# Altium schematic symbol library Schlib1.SchLib: 12 symbols
Pins are listed as number, name and electrical type; pins without a type are passive.

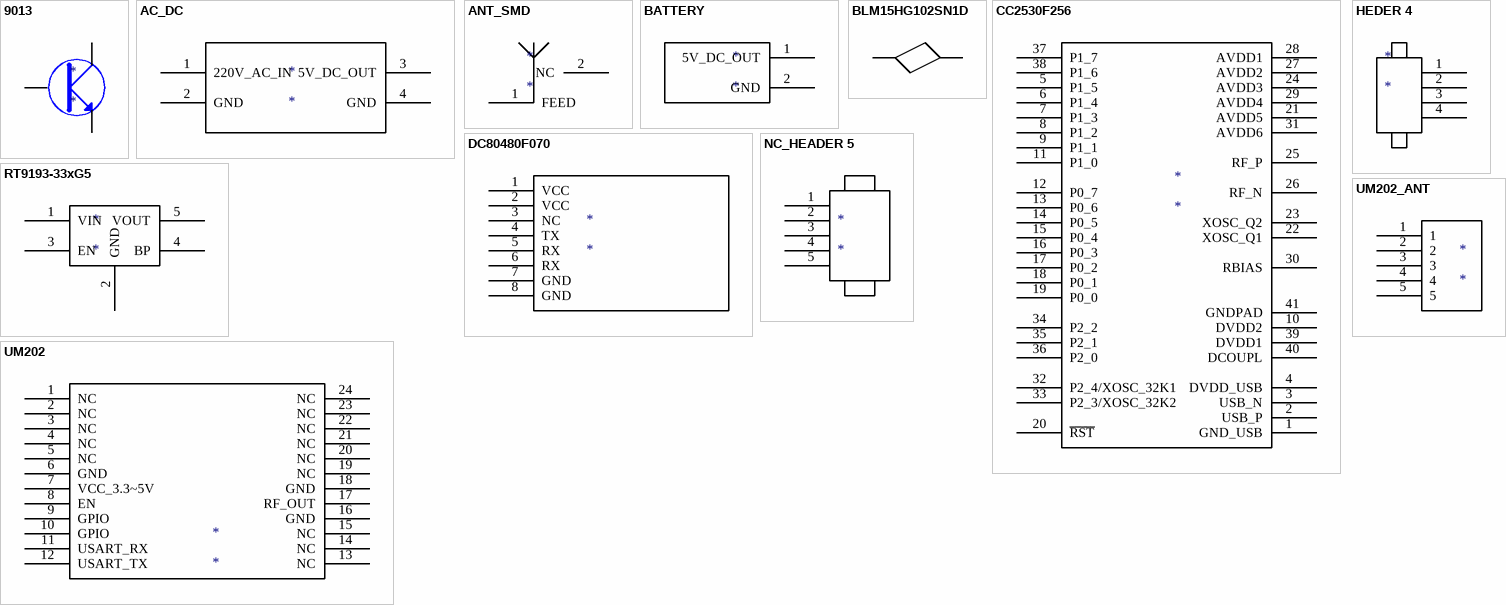
[diagram p0: symbols 9013 to UM202_ANT]

## 9013
designator *
pins: 1, 2, 3

## AC_DC
designator *
pins: 1 220V_AC_IN, 2 GND, 3 5V_DC_OUT, 4 GND

## ANT_SMD
designator *
pins: 1 FEED, 2 NC

## BATTERY
designator *
pins: 1 5V_DC_OUT, 2 GND

## BLM15HG102SN1D
designator *  (value not drawn)
pins: 6, 7

## CC2530F256
designator *
pins: 1 GND_USB, 2 USB_P, 3 USB_N, 4 DVDD_USB, 5 P1_5, 6 P1_4, 7 P1_3, 8 P1_2, 9 P1_1, 10 DVDD2, 11 P1_0, 12 P0_7, 13 P0_6, 14 P0_5, 15 P0_4, 16 P0_3, 17 P0_2, 18 P0_1, 19 P0_0, 20 ~{RST}, 21 AVDD5, 22 XOSC_Q1, 23 XOSC_Q2, 24 AVDD3, 25 RF_P, 26 RF_N, 27 AVDD2, 28 AVDD1, 29 AVDD4, 30 RBIAS, 31 AVDD6, 32 P2_4/XOSC_32K1, 33 P2_3/XOSC_32K2, 34 P2_2, 35 P2_1, 36 P2_0, 37 P1_7, 38 P1_6, 39 DVDD1, 40 DCOUPL, 41 GNDPAD

## DC80480F070
designator *
pins: 1 VCC, 2 VCC, 3 NC, 4 TX, 5 RX, 6 RX, 7 GND, 8 GND

## HEDER 4
designator *
pins: 1, 2, 3, 4

## NC_HEADER 5
designator *
pins: 1, 2, 3, 4, 5

## RT9193-33xG5
designator *
pins: 1 VIN, 2 GND, 3 EN, 4 BP, 5 VOUT

## UM202
designator *
pins: 1 NC, 2 NC, 3 NC, 4 NC, 5 NC, 6 GND, 7 VCC_3.3~5V, 8 EN, 9 GPIO, 10 GPIO, 11 USART_RX, 12 USART_TX, 13 NC, 14 NC, 15 NC, 16 GND, 17 RF_OUT, 18 GND, 19 NC, 20 NC, 21 NC, 22 NC, 23 NC, 24 NC

## UM202_ANT
designator *
pins: 1, 2, 3, 4, 5